# Altium integrated library Linear Technology Power Management Switching Regulator LT1074-LT8705.IntLib: 2252 symbols (part 98 of 148)
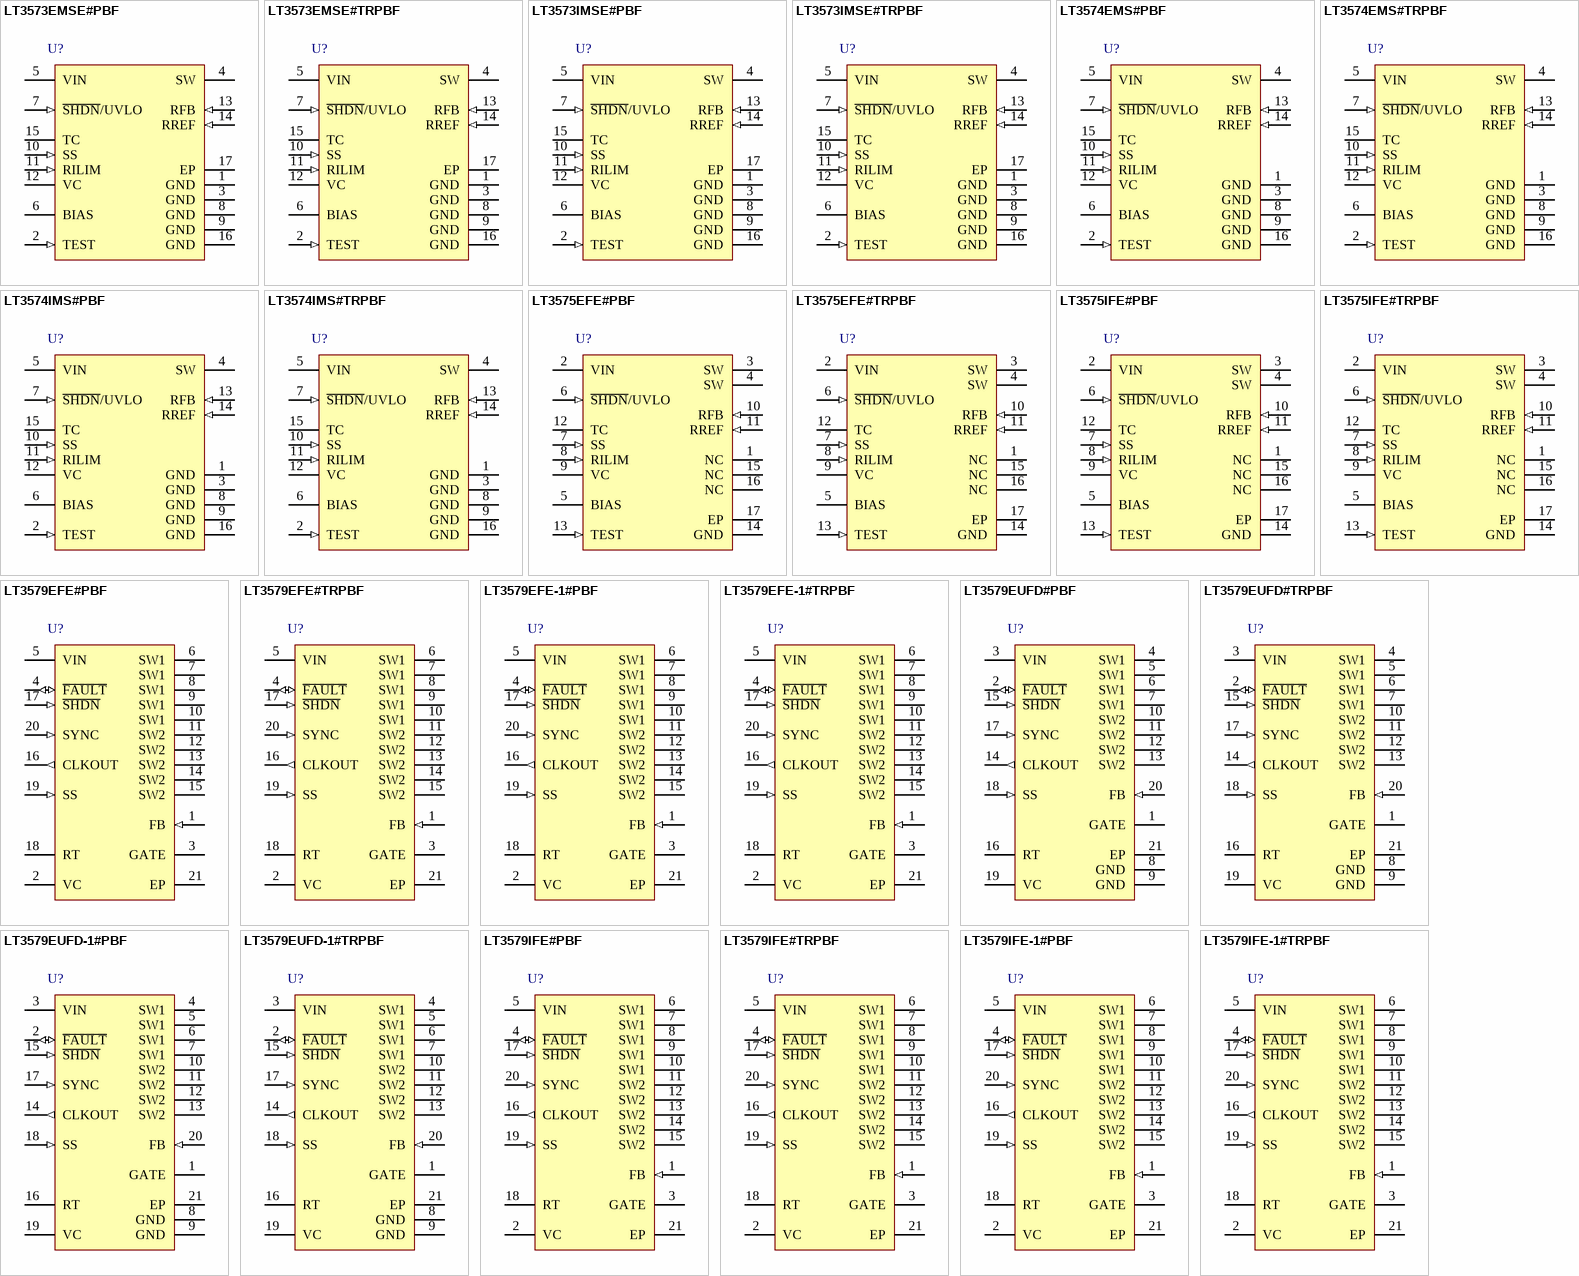
[diagram p168: symbols LT3573EMSE#PBF to LT3579IFE-1#TRPBF]

## LT3579EFE-1#TRPBF
designator U?
6 A Boost / Inverting DC/DC Converter with Fault Protection, 20-pin SOP (FE-20-EPV-CB), -40 to 125 deC, Pb-Free, Tape and Reel; Manufacturer: Linear Technology; PartNumber: LT3579EFE-1#TRPBF; Frequency Adjust Range: 200kHz - 2.5MHz; Number of Outputs: 1; PackageVersion: Rev. I, 05/2011; PackageReference: FE-20; PackageDescription: 20-Pin Plastic TSSOP, Body 6.5 x 4.4 mm, Pitch 0.65 mm; Supplier 1: Digi-Key; Supplier Part Number 1: LT3579EFE-1#TRPBF-ND; Packing: Tape and Reel; RoHS: TRUE; Mounting Technology: Surface Mount; ComponentLink1Description: Manufacturer URL; ComponentLink1URL: http://www.linear.com/; ComponentLink2Description: Datasheet; ComponentLink2URL: http://cds.linear.com/docs/en/datasheet/35791f.pdf; ComponentLink3Description: Package Specification; ComponentLink3URL: http://cds.linear.com/docs/en/packaging/05081663__J_FE20(CB).pdf
footprint LT-FE-20-EPV-CB_N (SOP, 20-Leads, Body 6.6x4.5mm, Pitch 0.65mm, Thermal Pad 3.86x2.74mm, IPC Medium Density)
footprint LT-FE-20-EPV-CB_L (SOP, 20-Leads, Body 6.6x4.5mm, Pitch 0.65mm, Thermal Pad 3.86x2.74mm, IPC High Density)
footprint LT-FE-20-EPV-CB_M (SOP, 20-Leads, Body 6.6x4.5mm, Pitch 0.65mm, Thermal Pad 3.86x2.74mm, IPC Low Density)
pins: 1 FB (in) "Positive and Negative Feedback Pin. For a Boost or Inverting Converter, tie a resistor from the FB pin to VOUT according to the following equations:", 2 VC "Error Amplifier Output Pin. Tie external compensation network to this pin.", 3 GATE (hiz) "PMOS Gate Drive Pin. The GATE pin is a pull-down current source, and can be used to drive the gate of an external PMOS transistor for output short circuit protection or output disconnect. The GATE pin current increases (See Datasheet)", 4 ~{FAULT} (io) "Fault Indication Pin. This active low, bidirectional pin can either be pulled low (below 750mV) by an external source, or internally by the chip to indicate a fault. When pulled low, this pin causes the power switches to (See Datasheet)", 5 VIN (power) "Input Supply Pin. Must be locally bypassed.", 6 SW1 "Master Switch Pin. This is the collector of the internal master NPN power switch. SW1 is designed to handle a peak collector current of 3.4A (minimum). Minimize the metal trace area connected to this pin to minimize EMI.", 7 SW1 "Master Switch Pin. This is the collector of the internal master NPN power switch. SW1 is designed to handle a peak collector current of 3.4A (minimum). Minimize the metal trace area connected to this pin to minimize EMI.", 8 SW1 "Master Switch Pin. This is the collector of the internal master NPN power switch. SW1 is designed to handle a peak collector current of 3.4A (minimum). Minimize the metal trace area connected to this pin to minimize EMI.", 9 SW1 "Master Switch Pin. This is the collector of the internal master NPN power switch. SW1 is designed to handle a peak collector current of 3.4A (minimum). Minimize the metal trace area connected to this pin to minimize EMI.", 10 SW1 "Master Switch Pin. This is the collector of the internal master NPN power switch. SW1 is designed to handle a peak collector current of 3.4A (minimum). Minimize the metal trace area connected to this pin to minimize EMI.", 11 SW2 "Slave Switch Pin. This is the collector of the internal slave NPN power switch. SW2 is designed to handle a peak collector current of 2.6A (minimum). Minimize the metal trace area connected to this pin to minimize EMI.", 12 SW2 "Slave Switch Pin. This is the collector of the internal slave NPN power switch. SW2 is designed to handle a peak collector current of 2.6A (minimum). Minimize the metal trace area connected to this pin to minimize EMI.", 13 SW2 "Slave Switch Pin. This is the collector of the internal slave NPN power switch. SW2 is designed to handle a peak collector current of 2.6A (minimum). Minimize the metal trace area connected to this pin to minimize EMI.", 14 SW2 "Slave Switch Pin. This is the collector of the internal slave NPN power switch. SW2 is designed to handle a peak collector current of 2.6A (minimum). Minimize the metal trace area connected to this pin to minimize EMI.", 15 SW2 "Slave Switch Pin. This is the collector of the internal slave NPN power switch. SW2 is designed to handle a peak collector current of 2.6A (minimum). Minimize the metal trace area connected to this pin to minimize EMI.", 16 CLKOUT (out) "Clock Output Pin. Use this pin to synchronize one or more other ICs to the LT3579. This pin oscillates at the same frequency as the internal oscillator of the part or as the SYNC pin. CLKOUT may also be used as a temperature (See Datasheet)", 17 ~{SHDN} (in) "Shutdown Pin. In conjunction with the UVLO (undervoltage lockout) circuit, this pin is used to enable/disable the chip and restart the soft-start sequence. Drive below 0.3V to disable the chip with very low quiescent current.(See Datasheet)", 18 RT "Timing Resistor Pin. Adjusts the LT3579’s switching frequency. Place a resistor from this pin to ground to set the frequency to a fixed free running level. Do not float this pin.", 19 SS (in) "Soft-Start Pin. Place a soft-start capacitor here. Upon start-up, the SS pin will be charged by a (nominally) 250kohm resistor to ~2.1V. During a fault, the SS pin will be slowly charged up and discharged as part of a (See Datasheet)", 20 SYNC (in) "To synchronize the switching frequency to an outside clock, simply drive this pin with a clock. The high voltage level of the clock must exceed 1.3V, and the low level must be less than 0.4V. Drive this pin to less than 0.4V (See Datasheet)", 21 EP (power) "Ground. Must be soldered directly to local ground plane."

## LT3579EUFD#PBF
designator U?
6 A Boost / Inverting DC/DC Converter with Fault Protection, 20-pin QFN (UFD-20), -40 to 125 deC, Pb-Free; Manufacturer: Linear Technology; PartNumber: LT3579EUFD#PBF; Frequency Adjust Range: 200kHz - 2.5MHz; Number of Outputs: 1; PackageVersion: Rev. B, 06/2010; PackageReference: UFD-20; PackageDescription: 20-Pin Plastic QFN, Body 5 x 4 mm, Pitch 0.5 mm; Supplier 1: Digi-Key; Supplier Part Number 1: LT3579EUFD#PBF-ND; Supplier 2: Newark; Supplier Part Number 2: 13T8442; RoHS: TRUE; Mounting Technology: Surface Mount; Code_JEDEC: MO-220; ComponentLink1Description: Manufacturer URL; ComponentLink1URL: http://www.linear.com/; ComponentLink2Description: Datasheet; ComponentLink2URL: http://cds.linear.com/docs/en/datasheet/35791f.pdf; ComponentLink3Description: Package Specification; ComponentLink3URL: http://cds.linear.com/docs/en/packaging/QFN_20_05-08-1711.pdf
footprint LT-UFD-20_N (QFN, 20-Leads, Body 5.1x4.1mm, Pitch 0.5mm, Thermal Pad 2.65x3.65mm, IPC Medium Density)
footprint LT-UFD-20_L (QFN, 20-Leads, Body 5.1x4.1mm, Pitch 0.5mm, Thermal Pad 2.65x3.65mm, IPC High Density)
footprint LT-UFD-20_M (QFN, 20-Leads, Body 5.1x4.1mm, Pitch 0.5mm, Thermal Pad 2.65x3.65mm, IPC Low Density)
pins: 1 GATE (hiz) "PMOS Gate Drive Pin. The GATE pin is a pull-down current source, and can be used to drive the gate of an external PMOS transistor for output short circuit protection or output disconnect. The GATE pin current increases (See Datasheet)", 2 ~{FAULT} (io) "Fault Indication Pin. This active low, bidirectional pin can either be pulled low (below 750mV) by an external source, or internally by the chip to indicate a fault. When pulled low, this pin causes the power switches to (See Datasheet)", 3 VIN (power) "Input Supply Pin. Must be locally bypassed.", 4 SW1 "Master Switch Pin. This is the collector of the internal master NPN power switch. SW1 is designed to handle a peak collector current of 3.4A (minimum). Minimize the metal trace area connected to this pin to minimize EMI.", 5 SW1 "Master Switch Pin. This is the collector of the internal master NPN power switch. SW1 is designed to handle a peak collector current of 3.4A (minimum). Minimize the metal trace area connected to this pin to minimize EMI.", 6 SW1 "Master Switch Pin. This is the collector of the internal master NPN power switch. SW1 is designed to handle a peak collector current of 3.4A (minimum). Minimize the metal trace area connected to this pin to minimize EMI.", 7 SW1 "Master Switch Pin. This is the collector of the internal master NPN power switch. SW1 is designed to handle a peak collector current of 3.4A (minimum). Minimize the metal trace area connected to this pin to minimize EMI.", 8 GND (power) "Ground. Must be soldered directly to local ground plane.", 9 GND (power) "Ground. Must be soldered directly to local ground plane.", 10 SW2 "Slave Switch Pin. This is the collector of the internal slave NPN power switch. SW2 is designed to handle a peak collector current of 2.6A (minimum). Minimize the metal trace area connected to this pin to minimize EMI.", 11 SW2 "Slave Switch Pin. This is the collector of the internal slave NPN power switch. SW2 is designed to handle a peak collector current of 2.6A (minimum). Minimize the metal trace area connected to this pin to minimize EMI.", 12 SW2 "Slave Switch Pin. This is the collector of the internal slave NPN power switch. SW2 is designed to handle a peak collector current of 2.6A (minimum). Minimize the metal trace area connected to this pin to minimize EMI.", 13 SW2 "Slave Switch Pin. This is the collector of the internal slave NPN power switch. SW2 is designed to handle a peak collector current of 2.6A (minimum). Minimize the metal trace area connected to this pin to minimize EMI.", 14 CLKOUT (out) "Clock Output Pin. Use this pin to synchronize one or more other ICs to the LT3579. This pin oscillates at the same frequency as the internal oscillator of the part or as the SYNC pin. CLKOUT may also be used as a temperature (See Datasheet)", 15 ~{SHDN} (in) "Shutdown Pin. In conjunction with the UVLO (undervoltage lockout) circuit, this pin is used to enable/disable the chip and restart the soft-start sequence. Drive below 0.3V to disable the chip with very low quiescent current.(See Datasheet)", 16 RT "Timing Resistor Pin. Adjusts the LT3579’s switching frequency. Place a resistor from this pin to ground to set the frequency to a fixed free running level. Do not float this pin.", 17 SYNC (in) "To synchronize the switching frequency to an outside clock, simply drive this pin with a clock. The high voltage level of the clock must exceed 1.3V, and the low level must be less than 0.4V. Drive this pin to less than 0.4V (See Datasheet)", 18 SS (in) "Soft-Start Pin. Place a soft-start capacitor here. Upon start-up, the SS pin will be charged by a (nominally) 250kohm resistor to ~2.1V. During a fault, the SS pin will be slowly charged up and discharged as part of a (See Datasheet)", 19 VC "Error Amplifier Output Pin. Tie external compensation network to this pin.", 20 FB (in) "Positive and Negative Feedback Pin. For a Boost or Inverting Converter, tie a resistor from the FB pin to VOUT according to the following equations:", 21 EP (power) "Ground. Must be soldered directly to local ground plane."

## LT3579EUFD#TRPBF
designator U?
6 A Boost / Inverting DC/DC Converter with Fault Protection, 20-pin QFN (UFD-20), -40 to 125 deC, Pb-Free, Tape and Reel; Manufacturer: Linear Technology; PartNumber: LT3579EUFD#TRPBF; Frequency Adjust Range: 200kHz - 2.5MHz; Number of Outputs: 1; PackageVersion: Rev. B, 06/2010; PackageReference: UFD-20; PackageDescription: 20-Pin Plastic QFN, Body 5 x 4 mm, Pitch 0.5 mm; Supplier 1: Digi-Key; Supplier Part Number 1: LT3579EUFD#TRPBF-ND; Supplier 2: Newark; Supplier Part Number 2: 13T8443; Packing: Tape and Reel; RoHS: TRUE; Mounting Technology: Surface Mount; Code_JEDEC: MO-220; ComponentLink1Description: Manufacturer URL; ComponentLink1URL: http://www.linear.com/; ComponentLink2Description: Datasheet; ComponentLink2URL: http://cds.linear.com/docs/en/datasheet/35791f.pdf; ComponentLink3Description: Package Specification; ComponentLink3URL: http://cds.linear.com/docs/en/packaging/QFN_20_05-08-1711.pdf
footprint LT-UFD-20_N (QFN, 20-Leads, Body 5.1x4.1mm, Pitch 0.5mm, Thermal Pad 2.65x3.65mm, IPC Medium Density)
footprint LT-UFD-20_L (QFN, 20-Leads, Body 5.1x4.1mm, Pitch 0.5mm, Thermal Pad 2.65x3.65mm, IPC High Density)
footprint LT-UFD-20_M (QFN, 20-Leads, Body 5.1x4.1mm, Pitch 0.5mm, Thermal Pad 2.65x3.65mm, IPC Low Density)
pins: 1 GATE (hiz) "PMOS Gate Drive Pin. The GATE pin is a pull-down current source, and can be used to drive the gate of an external PMOS transistor for output short circuit protection or output disconnect. The GATE pin current increases (See Datasheet)", 2 ~{FAULT} (io) "Fault Indication Pin. This active low, bidirectional pin can either be pulled low (below 750mV) by an external source, or internally by the chip to indicate a fault. When pulled low, this pin causes the power switches to (See Datasheet)", 3 VIN (power) "Input Supply Pin. Must be locally bypassed.", 4 SW1 "Master Switch Pin. This is the collector of the internal master NPN power switch. SW1 is designed to handle a peak collector current of 3.4A (minimum). Minimize the metal trace area connected to this pin to minimize EMI.", 5 SW1 "Master Switch Pin. This is the collector of the internal master NPN power switch. SW1 is designed to handle a peak collector current of 3.4A (minimum). Minimize the metal trace area connected to this pin to minimize EMI.", 6 SW1 "Master Switch Pin. This is the collector of the internal master NPN power switch. SW1 is designed to handle a peak collector current of 3.4A (minimum). Minimize the metal trace area connected to this pin to minimize EMI.", 7 SW1 "Master Switch Pin. This is the collector of the internal master NPN power switch. SW1 is designed to handle a peak collector current of 3.4A (minimum). Minimize the metal trace area connected to this pin to minimize EMI.", 8 GND (power) "Ground. Must be soldered directly to local ground plane.", 9 GND (power) "Ground. Must be soldered directly to local ground plane.", 10 SW2 "Slave Switch Pin. This is the collector of the internal slave NPN power switch. SW2 is designed to handle a peak collector current of 2.6A (minimum). Minimize the metal trace area connected to this pin to minimize EMI.", 11 SW2 "Slave Switch Pin. This is the collector of the internal slave NPN power switch. SW2 is designed to handle a peak collector current of 2.6A (minimum). Minimize the metal trace area connected to this pin to minimize EMI.", 12 SW2 "Slave Switch Pin. This is the collector of the internal slave NPN power switch. SW2 is designed to handle a peak collector current of 2.6A (minimum). Minimize the metal trace area connected to this pin to minimize EMI.", 13 SW2 "Slave Switch Pin. This is the collector of the internal slave NPN power switch. SW2 is designed to handle a peak collector current of 2.6A (minimum). Minimize the metal trace area connected to this pin to minimize EMI.", 14 CLKOUT (out) "Clock Output Pin. Use this pin to synchronize one or more other ICs to the LT3579. This pin oscillates at the same frequency as the internal oscillator of the part or as the SYNC pin. CLKOUT may also be used as a temperature (See Datasheet)", 15 ~{SHDN} (in) "Shutdown Pin. In conjunction with the UVLO (undervoltage lockout) circuit, this pin is used to enable/disable the chip and restart the soft-start sequence. Drive below 0.3V to disable the chip with very low quiescent current.(See Datasheet)", 16 RT "Timing Resistor Pin. Adjusts the LT3579’s switching frequency. Place a resistor from this pin to ground to set the frequency to a fixed free running level. Do not float this pin.", 17 SYNC (in) "To synchronize the switching frequency to an outside clock, simply drive this pin with a clock. The high voltage level of the clock must exceed 1.3V, and the low level must be less than 0.4V. Drive this pin to less than 0.4V (See Datasheet)", 18 SS (in) "Soft-Start Pin. Place a soft-start capacitor here. Upon start-up, the SS pin will be charged by a (nominally) 250kohm resistor to ~2.1V. During a fault, the SS pin will be slowly charged up and discharged as part of a (See Datasheet)", 19 VC "Error Amplifier Output Pin. Tie external compensation network to this pin.", 20 FB (in) "Positive and Negative Feedback Pin. For a Boost or Inverting Converter, tie a resistor from the FB pin to VOUT according to the following equations:", 21 EP (power) "Ground. Must be soldered directly to local ground plane."

## LT3579EUFD-1#PBF
designator U?
6 A Boost / Inverting DC/DC Converter with Fault Protection, 20-pin QFN (UFD-20), -40 to 125 deC, Pb-Free; Manufacturer: Linear Technology; PartNumber: LT3579EUFD-1#PBF; Frequency Adjust Range: 200kHz - 2.5MHz; Number of Outputs: 1; PackageVersion: Rev. B, 06/2010; PackageReference: UFD-20; PackageDescription: 20-Pin Plastic QFN, Body 5 x 4 mm, Pitch 0.5 mm; Supplier 1: Digi-Key; Supplier Part Number 1: LT3579EUFD-1#PBF-ND; RoHS: TRUE; Mounting Technology: Surface Mount; Code_JEDEC: MO-220; ComponentLink1Description: Manufacturer URL; ComponentLink1URL: http://www.linear.com/; ComponentLink2Description: Datasheet; ComponentLink2URL: http://cds.linear.com/docs/en/datasheet/35791f.pdf; ComponentLink3Description: Package Specification; ComponentLink3URL: http://cds.linear.com/docs/en/packaging/QFN_20_05-08-1711.pdf
footprint LT-UFD-20_N (QFN, 20-Leads, Body 5.1x4.1mm, Pitch 0.5mm, Thermal Pad 2.65x3.65mm, IPC Medium Density)
footprint LT-UFD-20_L (QFN, 20-Leads, Body 5.1x4.1mm, Pitch 0.5mm, Thermal Pad 2.65x3.65mm, IPC High Density)
footprint LT-UFD-20_M (QFN, 20-Leads, Body 5.1x4.1mm, Pitch 0.5mm, Thermal Pad 2.65x3.65mm, IPC Low Density)
pins: 1 GATE (hiz) "PMOS Gate Drive Pin. The GATE pin is a pull-down current source, and can be used to drive the gate of an external PMOS transistor for output short circuit protection or output disconnect. The GATE pin current increases (See Datasheet)", 2 ~{FAULT} (io) "Fault Indication Pin. This active low, bidirectional pin can either be pulled low (below 750mV) by an external source, or internally by the chip to indicate a fault. When pulled low, this pin causes the power switches to (See Datasheet)", 3 VIN (power) "Input Supply Pin. Must be locally bypassed.", 4 SW1 "Master Switch Pin. This is the collector of the internal master NPN power switch. SW1 is designed to handle a peak collector current of 3.4A (minimum). Minimize the metal trace area connected to this pin to minimize EMI.", 5 SW1 "Master Switch Pin. This is the collector of the internal master NPN power switch. SW1 is designed to handle a peak collector current of 3.4A (minimum). Minimize the metal trace area connected to this pin to minimize EMI.", 6 SW1 "Master Switch Pin. This is the collector of the internal master NPN power switch. SW1 is designed to handle a peak collector current of 3.4A (minimum). Minimize the metal trace area connected to this pin to minimize EMI.", 7 SW1 "Master Switch Pin. This is the collector of the internal master NPN power switch. SW1 is designed to handle a peak collector current of 3.4A (minimum). Minimize the metal trace area connected to this pin to minimize EMI.", 8 GND (power) "Ground. Must be soldered directly to local ground plane.", 9 GND (power) "Ground. Must be soldered directly to local ground plane.", 10 SW2 "Slave Switch Pin. This is the collector of the internal slave NPN power switch. SW2 is designed to handle a peak collector current of 2.6A (minimum). Minimize the metal trace area connected to this pin to minimize EMI.", 11 SW2 "Slave Switch Pin. This is the collector of the internal slave NPN power switch. SW2 is designed to handle a peak collector current of 2.6A (minimum). Minimize the metal trace area connected to this pin to minimize EMI.", 12 SW2 "Slave Switch Pin. This is the collector of the internal slave NPN power switch. SW2 is designed to handle a peak collector current of 2.6A (minimum). Minimize the metal trace area connected to this pin to minimize EMI.", 13 SW2 "Slave Switch Pin. This is the collector of the internal slave NPN power switch. SW2 is designed to handle a peak collector current of 2.6A (minimum). Minimize the metal trace area connected to this pin to minimize EMI.", 14 CLKOUT (out) "Clock Output Pin. Use this pin to synchronize one or more other ICs to the LT3579. This pin oscillates at the same frequency as the internal oscillator of the part or as the SYNC pin. CLKOUT may also be used as a temperature (See Datasheet)", 15 ~{SHDN} (in) "Shutdown Pin. In conjunction with the UVLO (undervoltage lockout) circuit, this pin is used to enable/disable the chip and restart the soft-start sequence. Drive below 0.3V to disable the chip with very low quiescent current.(See Datasheet)", 16 RT "Timing Resistor Pin. Adjusts the LT3579’s switching frequency. Place a resistor from this pin to ground to set the frequency to a fixed free running level. Do not float this pin.", 17 SYNC (in) "To synchronize the switching frequency to an outside clock, simply drive this pin with a clock. The high voltage level of the clock must exceed 1.3V, and the low level must be less than 0.4V. Drive this pin to less than 0.4V (See Datasheet)", 18 SS (in) "Soft-Start Pin. Place a soft-start capacitor here. Upon start-up, the SS pin will be charged by a (nominally) 250kohm resistor to ~2.1V. During a fault, the SS pin will be slowly charged up and discharged as part of a (See Datasheet)", 19 VC "Error Amplifier Output Pin. Tie external compensation network to this pin.", 20 FB (in) "Positive and Negative Feedback Pin. For a Boost or Inverting Converter, tie a resistor from the FB pin to VOUT according to the following equations:", 21 EP (power) "Ground. Must be soldered directly to local ground plane."

## LT3579EUFD-1#TRPBF
designator U?
6 A Boost / Inverting DC/DC Converter with Fault Protection, 20-pin QFN (UFD-20), -40 to 125 deC, Pb-Free, Tape and Reel; Manufacturer: Linear Technology; PartNumber: LT3579EUFD-1#TRPBF; Frequency Adjust Range: 200kHz - 2.5MHz; Number of Outputs: 1; PackageVersion: Rev. B, 06/2010; PackageReference: UFD-20; PackageDescription: 20-Pin Plastic QFN, Body 5 x 4 mm, Pitch 0.5 mm; Supplier 1: Digi-Key; Supplier Part Number 1: LT3579EUFD-1#TRPBF-ND; Packing: Tape and Reel; RoHS: TRUE; Mounting Technology: Surface Mount; Code_JEDEC: MO-220; ComponentLink1Description: Manufacturer URL; ComponentLink1URL: http://www.linear.com/; ComponentLink2Description: Datasheet; ComponentLink2URL: http://cds.linear.com/docs/en/datasheet/35791f.pdf; ComponentLink3Description: Package Specification; ComponentLink3URL: http://cds.linear.com/docs/en/packaging/QFN_20_05-08-1711.pdf
footprint LT-UFD-20_N (QFN, 20-Leads, Body 5.1x4.1mm, Pitch 0.5mm, Thermal Pad 2.65x3.65mm, IPC Medium Density)
footprint LT-UFD-20_L (QFN, 20-Leads, Body 5.1x4.1mm, Pitch 0.5mm, Thermal Pad 2.65x3.65mm, IPC High Density)
footprint LT-UFD-20_M (QFN, 20-Leads, Body 5.1x4.1mm, Pitch 0.5mm, Thermal Pad 2.65x3.65mm, IPC Low Density)
pins: 1 GATE (hiz) "PMOS Gate Drive Pin. The GATE pin is a pull-down current source, and can be used to drive the gate of an external PMOS transistor for output short circuit protection or output disconnect. The GATE pin current increases (See Datasheet)", 2 ~{FAULT} (io) "Fault Indication Pin. This active low, bidirectional pin can either be pulled low (below 750mV) by an external source, or internally by the chip to indicate a fault. When pulled low, this pin causes the power switches to (See Datasheet)", 3 VIN (power) "Input Supply Pin. Must be locally bypassed.", 4 SW1 "Master Switch Pin. This is the collector of the internal master NPN power switch. SW1 is designed to handle a peak collector current of 3.4A (minimum). Minimize the metal trace area connected to this pin to minimize EMI.", 5 SW1 "Master Switch Pin. This is the collector of the internal master NPN power switch. SW1 is designed to handle a peak collector current of 3.4A (minimum). Minimize the metal trace area connected to this pin to minimize EMI.", 6 SW1 "Master Switch Pin. This is the collector of the internal master NPN power switch. SW1 is designed to handle a peak collector current of 3.4A (minimum). Minimize the metal trace area connected to this pin to minimize EMI.", 7 SW1 "Master Switch Pin. This is the collector of the internal master NPN power switch. SW1 is designed to handle a peak collector current of 3.4A (minimum). Minimize the metal trace area connected to this pin to minimize EMI.", 8 GND (power) "Ground. Must be soldered directly to local ground plane.", 9 GND (power) "Ground. Must be soldered directly to local ground plane.", 10 SW2 "Slave Switch Pin. This is the collector of the internal slave NPN power switch. SW2 is designed to handle a peak collector current of 2.6A (minimum). Minimize the metal trace area connected to this pin to minimize EMI.", 11 SW2 "Slave Switch Pin. This is the collector of the internal slave NPN power switch. SW2 is designed to handle a peak collector current of 2.6A (minimum). Minimize the metal trace area connected to this pin to minimize EMI.", 12 SW2 "Slave Switch Pin. This is the collector of the internal slave NPN power switch. SW2 is designed to handle a peak collector current of 2.6A (minimum). Minimize the metal trace area connected to this pin to minimize EMI.", 13 SW2 "Slave Switch Pin. This is the collector of the internal slave NPN power switch. SW2 is designed to handle a peak collector current of 2.6A (minimum). Minimize the metal trace area connected to this pin to minimize EMI.", 14 CLKOUT (out) "Clock Output Pin. Use this pin to synchronize one or more other ICs to the LT3579. This pin oscillates at the same frequency as the internal oscillator of the part or as the SYNC pin. CLKOUT may also be used as a temperature (See Datasheet)", 15 ~{SHDN} (in) "Shutdown Pin. In conjunction with the UVLO (undervoltage lockout) circuit, this pin is used to enable/disable the chip and restart the soft-start sequence. Drive below 0.3V to disable the chip with very low quiescent current.(See Datasheet)", 16 RT "Timing Resistor Pin. Adjusts the LT3579’s switching frequency. Place a resistor from this pin to ground to set the frequency to a fixed free running level. Do not float this pin.", 17 SYNC (in) "To synchronize the switching frequency to an outside clock, simply drive this pin with a clock. The high voltage level of the clock must exceed 1.3V, and the low level must be less than 0.4V. Drive this pin to less than 0.4V (See Datasheet)", 18 SS (in) "Soft-Start Pin. Place a soft-start capacitor here. Upon start-up, the SS pin will be charged by a (nominally) 250kohm resistor to ~2.1V. During a fault, the SS pin will be slowly charged up and discharged as part of a (See Datasheet)", 19 VC "Error Amplifier Output Pin. Tie external compensation network to this pin.", 20 FB (in) "Positive and Negative Feedback Pin. For a Boost or Inverting Converter, tie a resistor from the FB pin to VOUT according to the following equations:", 21 EP (power) "Ground. Must be soldered directly to local ground plane."

## LT3579IFE#PBF
designator U?
6 A Boost / Inverting DC/DC Converter with Fault Protection, 20-pin SOP (FE-20-EPV-CB), -40 to 125 deC, Pb-Free; Manufacturer: Linear Technology; PartNumber: LT3579IFE#PBF; Frequency Adjust Range: 200kHz - 2.5MHz; Number of Outputs: 1; PackageVersion: Rev. I, 05/2011; PackageReference: FE-20; PackageDescription: 20-Pin Plastic TSSOP, Body 6.5 x 4.4 mm, Pitch 0.65 mm; Supplier 1: Digi-Key; Supplier Part Number 1: LT3579IFE#PBF-ND; Supplier 2: Newark; Supplier Part Number 2: 13T8446; RoHS: TRUE; Mounting Technology: Surface Mount; ComponentLink1Description: Manufacturer URL; ComponentLink1URL: http://www.linear.com/; ComponentLink2Description: Datasheet; ComponentLink2URL: http://cds.linear.com/docs/en/datasheet/35791f.pdf; ComponentLink3Description: Package Specification; ComponentLink3URL: http://cds.linear.com/docs/en/packaging/05081663__J_FE20(CB).pdf
footprint LT-FE-20-EPV-CB_N (SOP, 20-Leads, Body 6.6x4.5mm, Pitch 0.65mm, Thermal Pad 3.86x2.74mm, IPC Medium Density)
footprint LT-FE-20-EPV-CB_L (SOP, 20-Leads, Body 6.6x4.5mm, Pitch 0.65mm, Thermal Pad 3.86x2.74mm, IPC High Density)
footprint LT-FE-20-EPV-CB_M (SOP, 20-Leads, Body 6.6x4.5mm, Pitch 0.65mm, Thermal Pad 3.86x2.74mm, IPC Low Density)
pins: 1 FB (in) "Positive and Negative Feedback Pin. For a Boost or Inverting Converter, tie a resistor from the FB pin to VOUT according to the following equations:", 2 VC "Error Amplifier Output Pin. Tie external compensation network to this pin.", 3 GATE (hiz) "PMOS Gate Drive Pin. The GATE pin is a pull-down current source, and can be used to drive the gate of an external PMOS transistor for output short circuit protection or output disconnect. The GATE pin current increases (See Datasheet)", 4 ~{FAULT} (io) "Fault Indication Pin. This active low, bidirectional pin can either be pulled low (below 750mV) by an external source, or internally by the chip to indicate a fault. When pulled low, this pin causes the power switches to (See Datasheet)", 5 VIN (power) "Input Supply Pin. Must be locally bypassed.", 6 SW1 "Master Switch Pin. This is the collector of the internal master NPN power switch. SW1 is designed to handle a peak collector current of 3.4A (minimum). Minimize the metal trace area connected to this pin to minimize EMI.", 7 SW1 "Master Switch Pin. This is the collector of the internal master NPN power switch. SW1 is designed to handle a peak collector current of 3.4A (minimum). Minimize the metal trace area connected to this pin to minimize EMI.", 8 SW1 "Master Switch Pin. This is the collector of the internal master NPN power switch. SW1 is designed to handle a peak collector current of 3.4A (minimum). Minimize the metal trace area connected to this pin to minimize EMI.", 9 SW1 "Master Switch Pin. This is the collector of the internal master NPN power switch. SW1 is designed to handle a peak collector current of 3.4A (minimum). Minimize the metal trace area connected to this pin to minimize EMI.", 10 SW1 "Master Switch Pin. This is the collector of the internal master NPN power switch. SW1 is designed to handle a peak collector current of 3.4A (minimum). Minimize the metal trace area connected to this pin to minimize EMI.", 11 SW2 "Slave Switch Pin. This is the collector of the internal slave NPN power switch. SW2 is designed to handle a peak collector current of 2.6A (minimum). Minimize the metal trace area connected to this pin to minimize EMI.", 12 SW2 "Slave Switch Pin. This is the collector of the internal slave NPN power switch. SW2 is designed to handle a peak collector current of 2.6A (minimum). Minimize the metal trace area connected to this pin to minimize EMI.", 13 SW2 "Slave Switch Pin. This is the collector of the internal slave NPN power switch. SW2 is designed to handle a peak collector current of 2.6A (minimum). Minimize the metal trace area connected to this pin to minimize EMI.", 14 SW2 "Slave Switch Pin. This is the collector of the internal slave NPN power switch. SW2 is designed to handle a peak collector current of 2.6A (minimum). Minimize the metal trace area connected to this pin to minimize EMI.", 15 SW2 "Slave Switch Pin. This is the collector of the internal slave NPN power switch. SW2 is designed to handle a peak collector current of 2.6A (minimum). Minimize the metal trace area connected to this pin to minimize EMI.", 16 CLKOUT (out) "Clock Output Pin. Use this pin to synchronize one or more other ICs to the LT3579. This pin oscillates at the same frequency as the internal oscillator of the part or as the SYNC pin. CLKOUT may also be used as a temperature (See Datasheet)", 17 ~{SHDN} (in) "Shutdown Pin. In conjunction with the UVLO (undervoltage lockout) circuit, this pin is used to enable/disable the chip and restart the soft-start sequence. Drive below 0.3V to disable the chip with very low quiescent current.(See Datasheet)", 18 RT "Timing Resistor Pin. Adjusts the LT3579’s switching frequency. Place a resistor from this pin to ground to set the frequency to a fixed free running level. Do not float this pin.", 19 SS (in) "Soft-Start Pin. Place a soft-start capacitor here. Upon start-up, the SS pin will be charged by a (nominally) 250kohm resistor to ~2.1V. During a fault, the SS pin will be slowly charged up and discharged as part of a (See Datasheet)", 20 SYNC (in) "To synchronize the switching frequency to an outside clock, simply drive this pin with a clock. The high voltage level of the clock must exceed 1.3V, and the low level must be less than 0.4V. Drive this pin to less than 0.4V (See Datasheet)", 21 EP (power) "Ground. Must be soldered directly to local ground plane."

## LT3579IFE#TRPBF
designator U?
6 A Boost / Inverting DC/DC Converter with Fault Protection, 20-pin SOP (FE-20-EPV-CB), -40 to 125 deC, Pb-Free, Tape and Reel; Manufacturer: Linear Technology; PartNumber: LT3579IFE#TRPBF; Frequency Adjust Range: 200kHz - 2.5MHz; Number of Outputs: 1; PackageVersion: Rev. I, 05/2011; PackageReference: FE-20; PackageDescription: 20-Pin Plastic TSSOP, Body 6.5 x 4.4 mm, Pitch 0.65 mm; Supplier 1: Digi-Key; Supplier Part Number 1: LT3579IFE#TRPBF-ND; Packing: Tape and Reel; RoHS: TRUE; Mounting Technology: Surface Mount; ComponentLink1Description: Manufacturer URL; ComponentLink1URL: http://www.linear.com/; ComponentLink2Description: Datasheet; ComponentLink2URL: http://cds.linear.com/docs/en/datasheet/35791f.pdf; ComponentLink3Description: Package Specification; ComponentLink3URL: http://cds.linear.com/docs/en/packaging/05081663__J_FE20(CB).pdf
footprint LT-FE-20-EPV-CB_N (SOP, 20-Leads, Body 6.6x4.5mm, Pitch 0.65mm, Thermal Pad 3.86x2.74mm, IPC Medium Density)
footprint LT-FE-20-EPV-CB_L (SOP, 20-Leads, Body 6.6x4.5mm, Pitch 0.65mm, Thermal Pad 3.86x2.74mm, IPC High Density)
footprint LT-FE-20-EPV-CB_M (SOP, 20-Leads, Body 6.6x4.5mm, Pitch 0.65mm, Thermal Pad 3.86x2.74mm, IPC Low Density)
pins: 1 FB (in) "Positive and Negative Feedback Pin. For a Boost or Inverting Converter, tie a resistor from the FB pin to VOUT according to the following equations:", 2 VC "Error Amplifier Output Pin. Tie external compensation network to this pin.", 3 GATE (hiz) "PMOS Gate Drive Pin. The GATE pin is a pull-down current source, and can be used to drive the gate of an external PMOS transistor for output short circuit protection or output disconnect. The GATE pin current increases (See Datasheet)", 4 ~{FAULT} (io) "Fault Indication Pin. This active low, bidirectional pin can either be pulled low (below 750mV) by an external source, or internally by the chip to indicate a fault. When pulled low, this pin causes the power switches to (See Datasheet)", 5 VIN (power) "Input Supply Pin. Must be locally bypassed.", 6 SW1 "Master Switch Pin. This is the collector of the internal master NPN power switch. SW1 is designed to handle a peak collector current of 3.4A (minimum). Minimize the metal trace area connected to this pin to minimize EMI.", 7 SW1 "Master Switch Pin. This is the collector of the internal master NPN power switch. SW1 is designed to handle a peak collector current of 3.4A (minimum). Minimize the metal trace area connected to this pin to minimize EMI.", 8 SW1 "Master Switch Pin. This is the collector of the internal master NPN power switch. SW1 is designed to handle a peak collector current of 3.4A (minimum). Minimize the metal trace area connected to this pin to minimize EMI.", 9 SW1 "Master Switch Pin. This is the collector of the internal master NPN power switch. SW1 is designed to handle a peak collector current of 3.4A (minimum). Minimize the metal trace area connected to this pin to minimize EMI.", 10 SW1 "Master Switch Pin. This is the collector of the internal master NPN power switch. SW1 is designed to handle a peak collector current of 3.4A (minimum). Minimize the metal trace area connected to this pin to minimize EMI.", 11 SW2 "Slave Switch Pin. This is the collector of the internal slave NPN power switch. SW2 is designed to handle a peak collector current of 2.6A (minimum). Minimize the metal trace area connected to this pin to minimize EMI.", 12 SW2 "Slave Switch Pin. This is the collector of the internal slave NPN power switch. SW2 is designed to handle a peak collector current of 2.6A (minimum). Minimize the metal trace area connected to this pin to minimize EMI.", 13 SW2 "Slave Switch Pin. This is the collector of the internal slave NPN power switch. SW2 is designed to handle a peak collector current of 2.6A (minimum). Minimize the metal trace area connected to this pin to minimize EMI.", 14 SW2 "Slave Switch Pin. This is the collector of the internal slave NPN power switch. SW2 is designed to handle a peak collector current of 2.6A (minimum). Minimize the metal trace area connected to this pin to minimize EMI.", 15 SW2 "Slave Switch Pin. This is the collector of the internal slave NPN power switch. SW2 is designed to handle a peak collector current of 2.6A (minimum). Minimize the metal trace area connected to this pin to minimize EMI.", 16 CLKOUT (out) "Clock Output Pin. Use this pin to synchronize one or more other ICs to the LT3579. This pin oscillates at the same frequency as the internal oscillator of the part or as the SYNC pin. CLKOUT may also be used as a temperature (See Datasheet)", 17 ~{SHDN} (in) "Shutdown Pin. In conjunction with the UVLO (undervoltage lockout) circuit, this pin is used to enable/disable the chip and restart the soft-start sequence. Drive below 0.3V to disable the chip with very low quiescent current.(See Datasheet)", 18 RT "Timing Resistor Pin. Adjusts the LT3579’s switching frequency. Place a resistor from this pin to ground to set the frequency to a fixed free running level. Do not float this pin.", 19 SS (in) "Soft-Start Pin. Place a soft-start capacitor here. Upon start-up, the SS pin will be charged by a (nominally) 250kohm resistor to ~2.1V. During a fault, the SS pin will be slowly charged up and discharged as part of a (See Datasheet)", 20 SYNC (in) "To synchronize the switching frequency to an outside clock, simply drive this pin with a clock. The high voltage level of the clock must exceed 1.3V, and the low level must be less than 0.4V. Drive this pin to less than 0.4V (See Datasheet)", 21 EP (power) "Ground. Must be soldered directly to local ground plane."

## LT3579IFE-1#PBF
designator U?
6 A Boost / Inverting DC/DC Converter with Fault Protection, 20-pin SOP (FE-20-EPV-CB), -40 to 125 deC, Pb-Free; Manufacturer: Linear Technology; PartNumber: LT3579IFE-1#PBF; Frequency Adjust Range: 200kHz - 2.5MHz; Number of Outputs: 1; PackageVersion: Rev. I, 05/2011; PackageReference: FE-20; PackageDescription: 20-Pin Plastic TSSOP, Body 6.5 x 4.4 mm, Pitch 0.65 mm; Supplier 1: Digi-Key; Supplier Part Number 1: LT3579IFE-1#PBF-ND; RoHS: TRUE; Mounting Technology: Surface Mount; ComponentLink1Description: Manufacturer URL; ComponentLink1URL: http://www.linear.com/; ComponentLink2Description: Datasheet; ComponentLink2URL: http://cds.linear.com/docs/en/datasheet/35791f.pdf; ComponentLink3Description: Package Specification; ComponentLink3URL: http://cds.linear.com/docs/en/packaging/05081663__J_FE20(CB).pdf
footprint LT-FE-20-EPV-CB_N (SOP, 20-Leads, Body 6.6x4.5mm, Pitch 0.65mm, Thermal Pad 3.86x2.74mm, IPC Medium Density)
footprint LT-FE-20-EPV-CB_L (SOP, 20-Leads, Body 6.6x4.5mm, Pitch 0.65mm, Thermal Pad 3.86x2.74mm, IPC High Density)
footprint LT-FE-20-EPV-CB_M (SOP, 20-Leads, Body 6.6x4.5mm, Pitch 0.65mm, Thermal Pad 3.86x2.74mm, IPC Low Density)
pins: 1 FB (in) "Positive and Negative Feedback Pin. For a Boost or Inverting Converter, tie a resistor from the FB pin to VOUT according to the following equations:", 2 VC "Error Amplifier Output Pin. Tie external compensation network to this pin.", 3 GATE (hiz) "PMOS Gate Drive Pin. The GATE pin is a pull-down current source, and can be used to drive the gate of an external PMOS transistor for output short circuit protection or output disconnect. The GATE pin current increases (See Datasheet)", 4 ~{FAULT} (io) "Fault Indication Pin. This active low, bidirectional pin can either be pulled low (below 750mV) by an external source, or internally by the chip to indicate a fault. When pulled low, this pin causes the power switches to (See Datasheet)", 5 VIN (power) "Input Supply Pin. Must be locally bypassed.", 6 SW1 "Master Switch Pin. This is the collector of the internal master NPN power switch. SW1 is designed to handle a peak collector current of 3.4A (minimum). Minimize the metal trace area connected to this pin to minimize EMI.", 7 SW1 "Master Switch Pin. This is the collector of the internal master NPN power switch. SW1 is designed to handle a peak collector current of 3.4A (minimum). Minimize the metal trace area connected to this pin to minimize EMI.", 8 SW1 "Master Switch Pin. This is the collector of the internal master NPN power switch. SW1 is designed to handle a peak collector current of 3.4A (minimum). Minimize the metal trace area connected to this pin to minimize EMI.", 9 SW1 "Master Switch Pin. This is the collector of the internal master NPN power switch. SW1 is designed to handle a peak collector current of 3.4A (minimum). Minimize the metal trace area connected to this pin to minimize EMI.", 10 SW1 "Master Switch Pin. This is the collector of the internal master NPN power switch. SW1 is designed to handle a peak collector current of 3.4A (minimum). Minimize the metal trace area connected to this pin to minimize EMI.", 11 SW2 "Slave Switch Pin. This is the collector of the internal slave NPN power switch. SW2 is designed to handle a peak collector current of 2.6A (minimum). Minimize the metal trace area connected to this pin to minimize EMI.", 12 SW2 "Slave Switch Pin. This is the collector of the internal slave NPN power switch. SW2 is designed to handle a peak collector current of 2.6A (minimum). Minimize the metal trace area connected to this pin to minimize EMI.", 13 SW2 "Slave Switch Pin. This is the collector of the internal slave NPN power switch. SW2 is designed to handle a peak collector current of 2.6A (minimum). Minimize the metal trace area connected to this pin to minimize EMI.", 14 SW2 "Slave Switch Pin. This is the collector of the internal slave NPN power switch. SW2 is designed to handle a peak collector current of 2.6A (minimum). Minimize the metal trace area connected to this pin to minimize EMI.", 15 SW2 "Slave Switch Pin. This is the collector of the internal slave NPN power switch. SW2 is designed to handle a peak collector current of 2.6A (minimum). Minimize the metal trace area connected to this pin to minimize EMI.", 16 CLKOUT (out) "Clock Output Pin. Use this pin to synchronize one or more other ICs to the LT3579. This pin oscillates at the same frequency as the internal oscillator of the part or as the SYNC pin. CLKOUT may also be used as a temperature (See Datasheet)", 17 ~{SHDN} (in) "Shutdown Pin. In conjunction with the UVLO (undervoltage lockout) circuit, this pin is used to enable/disable the chip and restart the soft-start sequence. Drive below 0.3V to disable the chip with very low quiescent current.(See Datasheet)", 18 RT "Timing Resistor Pin. Adjusts the LT3579’s switching frequency. Place a resistor from this pin to ground to set the frequency to a fixed free running level. Do not float this pin.", 19 SS (in) "Soft-Start Pin. Place a soft-start capacitor here. Upon start-up, the SS pin will be charged by a (nominally) 250kohm resistor to ~2.1V. During a fault, the SS pin will be slowly charged up and discharged as part of a (See Datasheet)", 20 SYNC (in) "To synchronize the switching frequency to an outside clock, simply drive this pin with a clock. The high voltage level of the clock must exceed 1.3V, and the low level must be less than 0.4V. Drive this pin to less than 0.4V (See Datasheet)", 21 EP (power) "Ground. Must be soldered directly to local ground plane."

## LT3579IFE-1#TRPBF
designator U?
6 A Boost / Inverting DC/DC Converter with Fault Protection, 20-pin SOP (FE-20-EPV-CB), -40 to 125 deC, Pb-Free, Tape and Reel; Manufacturer: Linear Technology; PartNumber: LT3579IFE-1#TRPBF; Frequency Adjust Range: 200kHz - 2.5MHz; Number of Outputs: 1; PackageVersion: Rev. I, 05/2011; PackageReference: FE-20; PackageDescription: 20-Pin Plastic TSSOP, Body 6.5 x 4.4 mm, Pitch 0.65 mm; Supplier 1: Digi-Key; Supplier Part Number 1: LT3579IFE-1#TRPBF-ND; Packing: Tape and Reel; RoHS: TRUE; Mounting Technology: Surface Mount; ComponentLink1Description: Manufacturer URL; ComponentLink1URL: http://www.linear.com/; ComponentLink2Description: Datasheet; ComponentLink2URL: http://cds.linear.com/docs/en/datasheet/35791f.pdf; ComponentLink3Description: Package Specification; ComponentLink3URL: http://cds.linear.com/docs/en/packaging/05081663__J_FE20(CB).pdf
footprint LT-FE-20-EPV-CB_N (SOP, 20-Leads, Body 6.6x4.5mm, Pitch 0.65mm, Thermal Pad 3.86x2.74mm, IPC Medium Density)
footprint LT-FE-20-EPV-CB_L (SOP, 20-Leads, Body 6.6x4.5mm, Pitch 0.65mm, Thermal Pad 3.86x2.74mm, IPC High Density)
footprint LT-FE-20-EPV-CB_M (SOP, 20-Leads, Body 6.6x4.5mm, Pitch 0.65mm, Thermal Pad 3.86x2.74mm, IPC Low Density)
pins: 1 FB (in) "Positive and Negative Feedback Pin. For a Boost or Inverting Converter, tie a resistor from the FB pin to VOUT according to the following equations:", 2 VC "Error Amplifier Output Pin. Tie external compensation network to this pin.", 3 GATE (hiz) "PMOS Gate Drive Pin. The GATE pin is a pull-down current source, and can be used to drive the gate of an external PMOS transistor for output short circuit protection or output disconnect. The GATE pin current increases (See Datasheet)", 4 ~{FAULT} (io) "Fault Indication Pin. This active low, bidirectional pin can either be pulled low (below 750mV) by an external source, or internally by the chip to indicate a fault. When pulled low, this pin causes the power switches to (See Datasheet)", 5 VIN (power) "Input Supply Pin. Must be locally bypassed.", 6 SW1 "Master Switch Pin. This is the collector of the internal master NPN power switch. SW1 is designed to handle a peak collector current of 3.4A (minimum). Minimize the metal trace area connected to this pin to minimize EMI.", 7 SW1 "Master Switch Pin. This is the collector of the internal master NPN power switch. SW1 is designed to handle a peak collector current of 3.4A (minimum). Minimize the metal trace area connected to this pin to minimize EMI.", 8 SW1 "Master Switch Pin. This is the collector of the internal master NPN power switch. SW1 is designed to handle a peak collector current of 3.4A (minimum). Minimize the metal trace area connected to this pin to minimize EMI.", 9 SW1 "Master Switch Pin. This is the collector of the internal master NPN power switch. SW1 is designed to handle a peak collector current of 3.4A (minimum). Minimize the metal trace area connected to this pin to minimize EMI.", 10 SW1 "Master Switch Pin. This is the collector of the internal master NPN power switch. SW1 is designed to handle a peak collector current of 3.4A (minimum). Minimize the metal trace area connected to this pin to minimize EMI.", 11 SW2 "Slave Switch Pin. This is the collector of the internal slave NPN power switch. SW2 is designed to handle a peak collector current of 2.6A (minimum). Minimize the metal trace area connected to this pin to minimize EMI.", 12 SW2 "Slave Switch Pin. This is the collector of the internal slave NPN power switch. SW2 is designed to handle a peak collector current of 2.6A (minimum). Minimize the metal trace area connected to this pin to minimize EMI.", 13 SW2 "Slave Switch Pin. This is the collector of the internal slave NPN power switch. SW2 is designed to handle a peak collector current of 2.6A (minimum). Minimize the metal trace area connected to this pin to minimize EMI.", 14 SW2 "Slave Switch Pin. This is the collector of the internal slave NPN power switch. SW2 is designed to handle a peak collector current of 2.6A (minimum). Minimize the metal trace area connected to this pin to minimize EMI.", 15 SW2 "Slave Switch Pin. This is the collector of the internal slave NPN power switch. SW2 is designed to handle a peak collector current of 2.6A (minimum). Minimize the metal trace area connected to this pin to minimize EMI.", 16 CLKOUT (out) "Clock Output Pin. Use this pin to synchronize one or more other ICs to the LT3579. This pin oscillates at the same frequency as the internal oscillator of the part or as the SYNC pin. CLKOUT may also be used as a temperature (See Datasheet)", 17 ~{SHDN} (in) "Shutdown Pin. In conjunction with the UVLO (undervoltage lockout) circuit, this pin is used to enable/disable the chip and restart the soft-start sequence. Drive below 0.3V to disable the chip with very low quiescent current.(See Datasheet)", 18 RT "Timing Resistor Pin. Adjusts the LT3579’s switching frequency. Place a resistor from this pin to ground to set the frequency to a fixed free running level. Do not float this pin.", 19 SS (in) "Soft-Start Pin. Place a soft-start capacitor here. Upon start-up, the SS pin will be charged by a (nominally) 250kohm resistor to ~2.1V. During a fault, the SS pin will be slowly charged up and discharged as part of a (See Datasheet)", 20 SYNC (in) "To synchronize the switching frequency to an outside clock, simply drive this pin with a clock. The high voltage level of the clock must exceed 1.3V, and the low level must be less than 0.4V. Drive this pin to less than 0.4V (See Datasheet)", 21 EP (power) "Ground. Must be soldered directly to local ground plane."

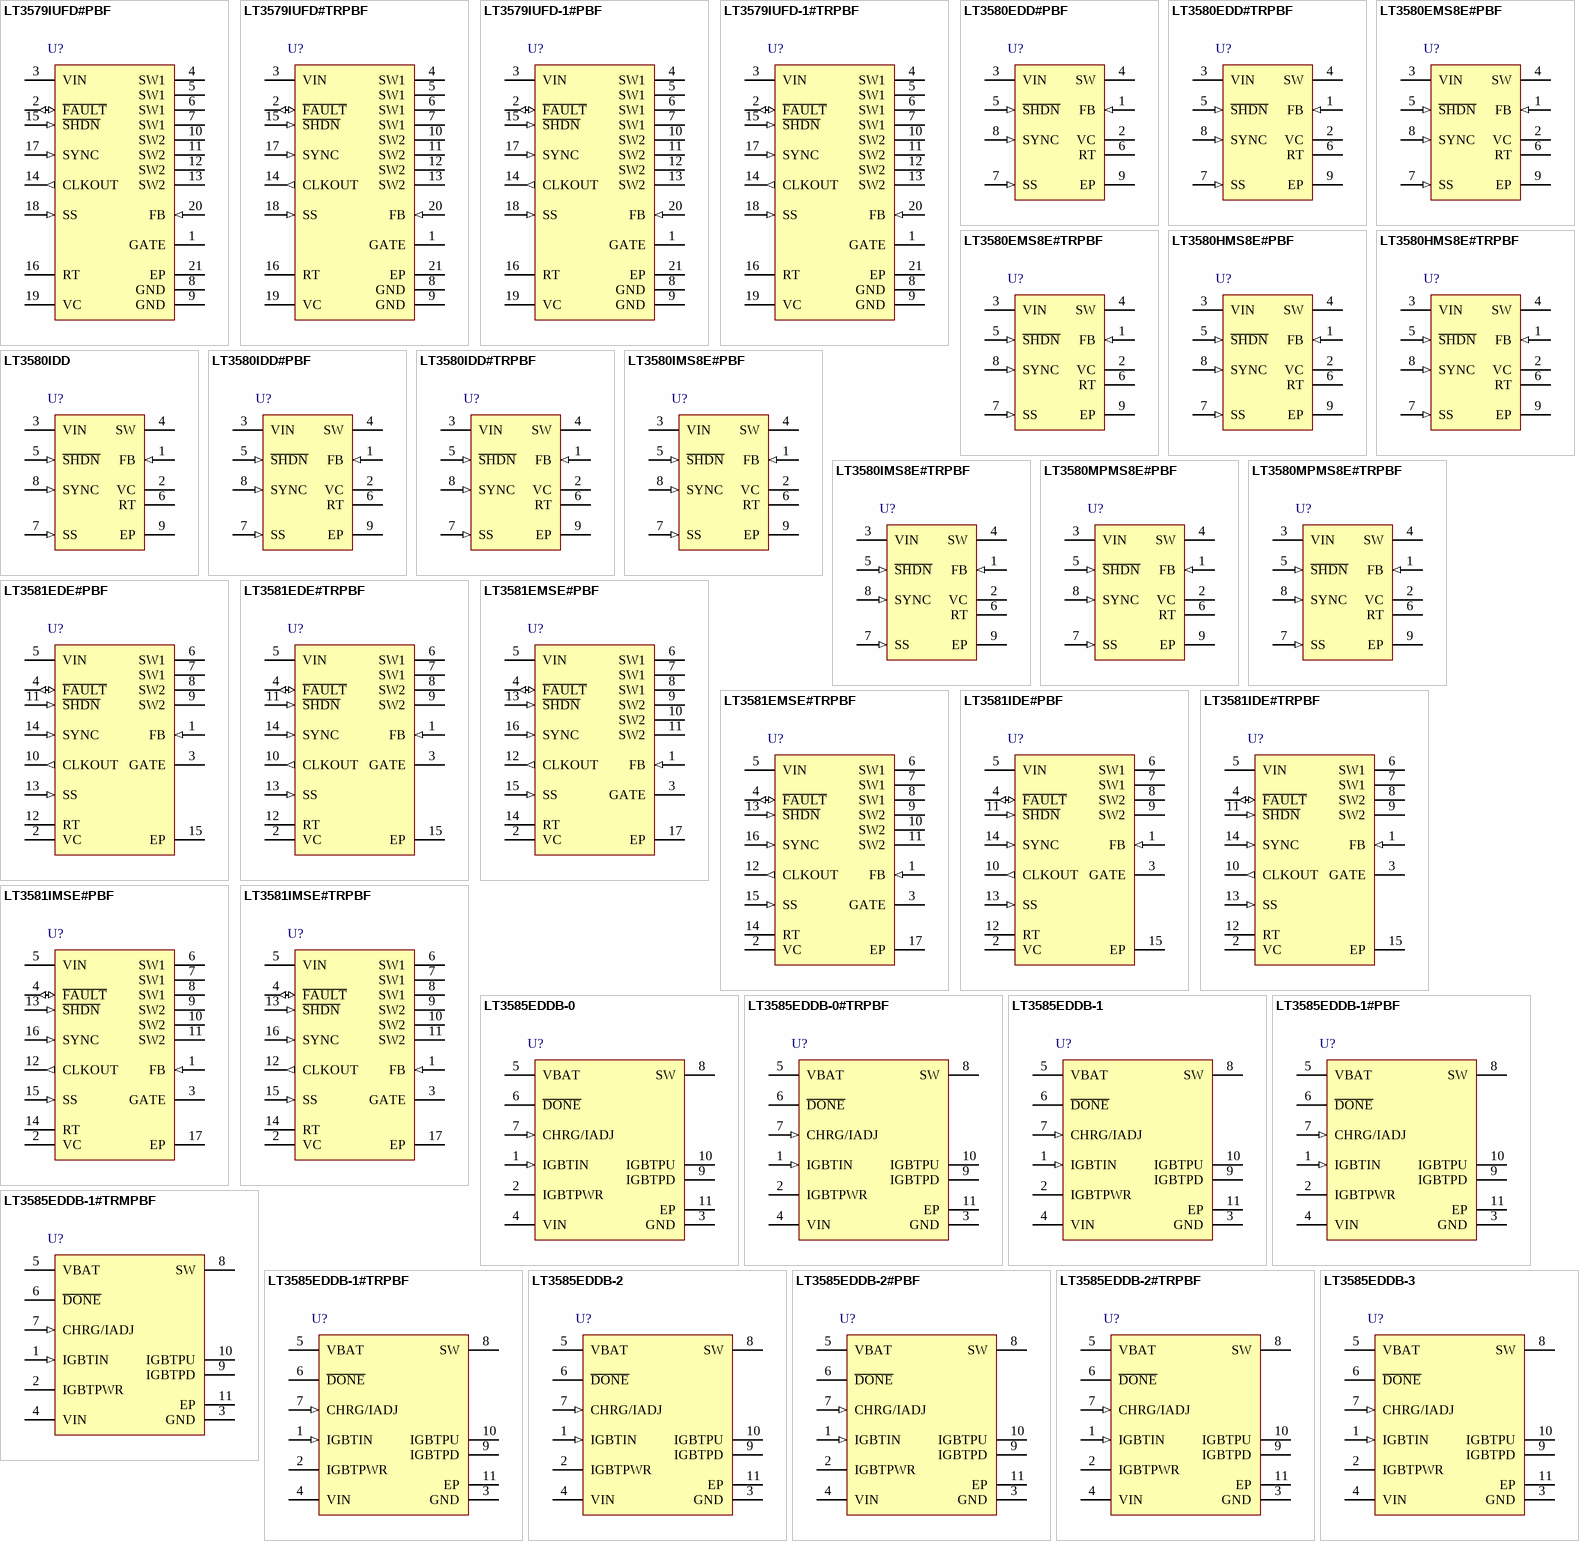
[diagram p49: symbols LT3579IUFD#PBF to LT3585EDDB-3]